# Altium integrated library Seeed-OPL-ic.IntLib: 210 symbols (part 2 of 2)
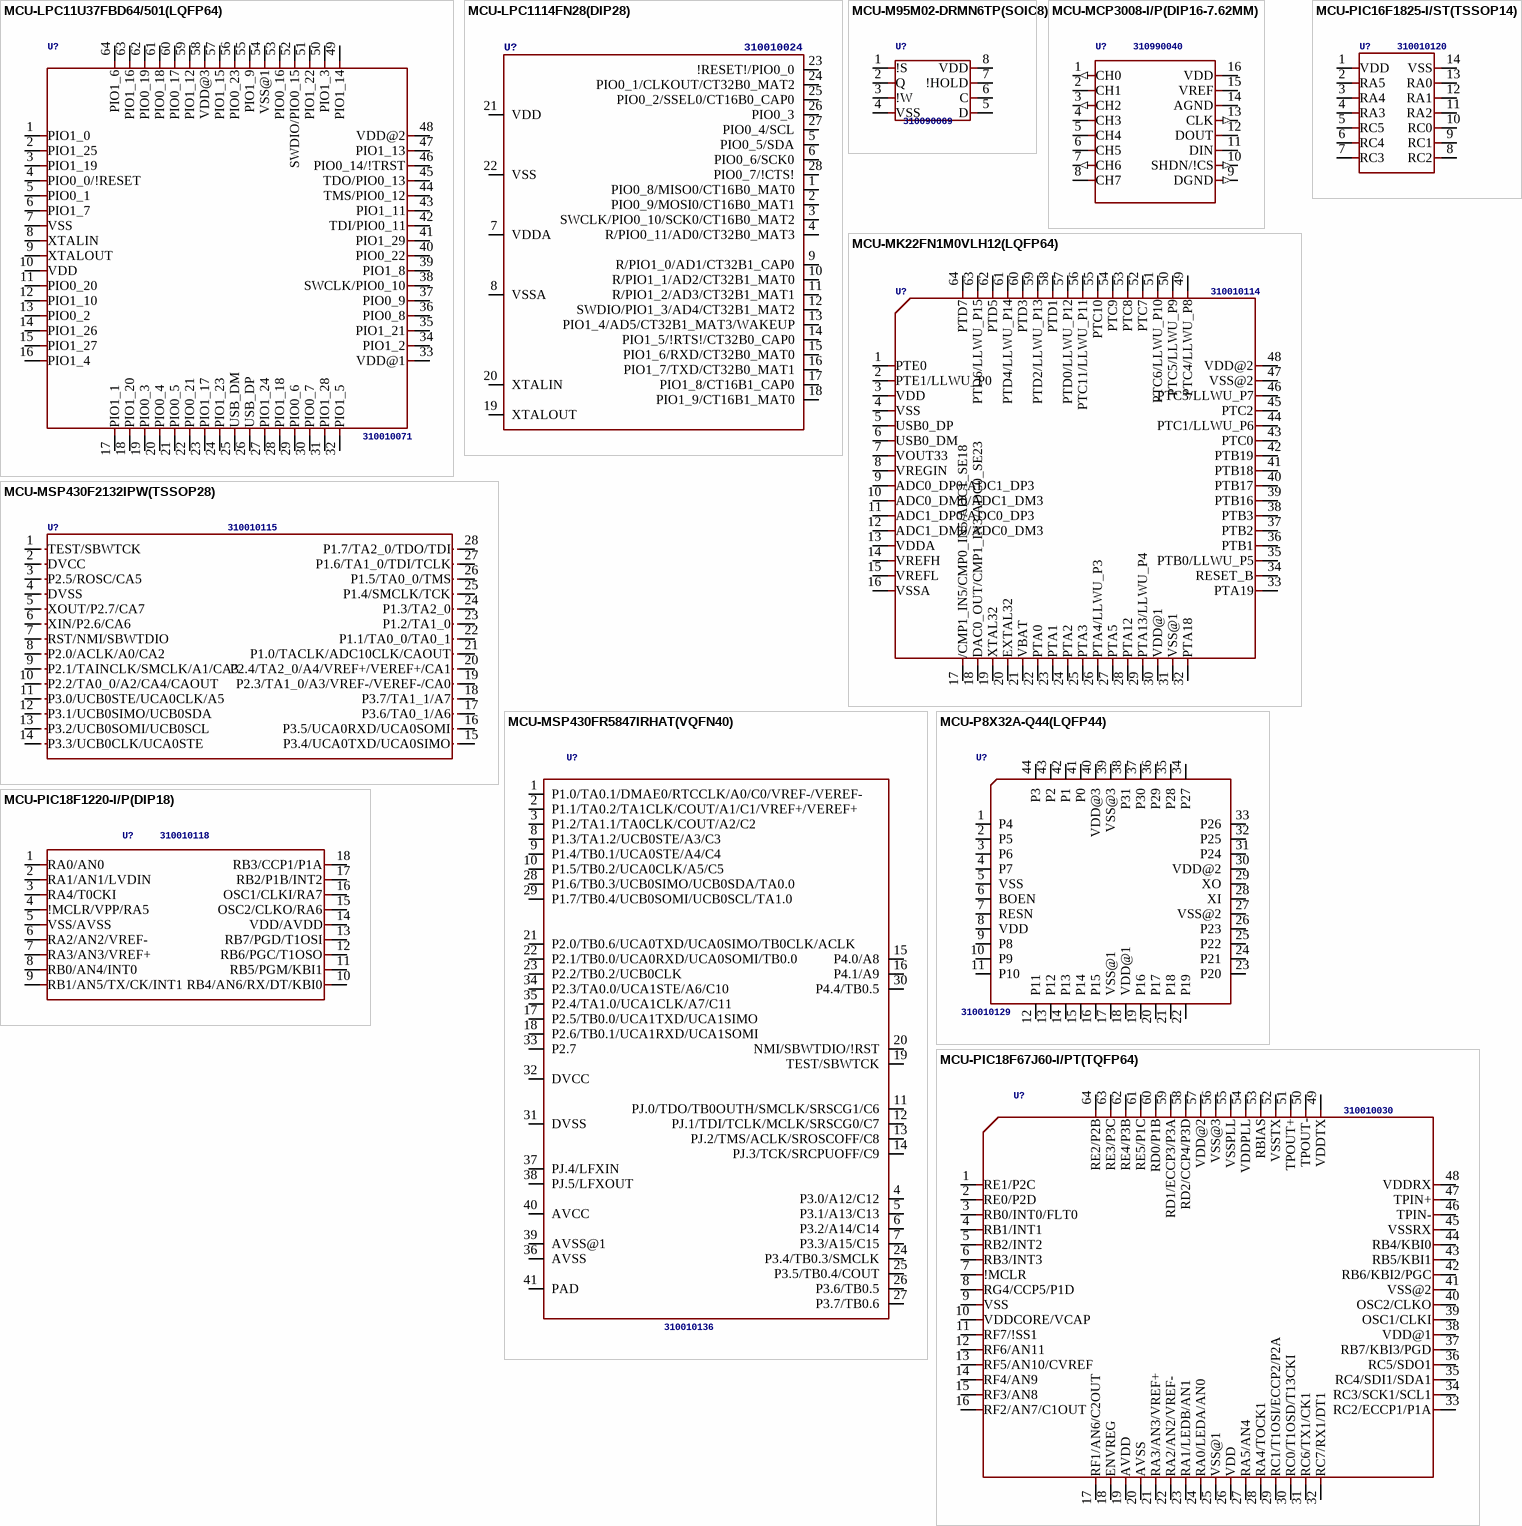
[diagram p13: symbols MCU-LPC11U37FBD64/501(LQFP64) to MCU-PIC18F1220-I/P(DIP18)]

## MCU-LPC1114FN28(DIP28)
designator U?, comment 310010024
MPN: LPC1114FN28
footprint DIP28-2.54-35.6X13.5MM
pins: 1 PIO0_8/MISO0/CT16B0_MAT0, 2 PIO0_9/MOSI0/CT16B0_MAT1, 3 SWCLK/PIO0_10/SCK0/CT16B0_MAT2, 4 R/PIO0_11/AD0/CT32B0_MAT3, 5 PIO0_5/SDA, 6 PIO0_6/SCK0, 7 VDDA (power), 8 VSSA (power), 9 R/PIO1_0/AD1/CT32B1_CAP0, 10 R/PIO1_1/AD2/CT32B1_MAT0, 11 R/PIO1_2/AD3/CT32B1_MAT1, 12 SWDIO/PIO1_3/AD4/CT32B1_MAT2, 13 PIO1_4/AD5/CT32B1_MAT3/WAKEUP, 14 PIO1_5/!RTS!/CT32B0_CAP0, 15 PIO1_6/RXD/CT32B0_MAT0, 16 PIO1_7/TXD/CT32B0_MAT1, 17 PIO1_8/CT16B1_CAP0, 18 PIO1_9/CT16B1_MAT0, 19 XTALOUT, 20 XTALIN, 21 VDD (power), 22 VSS (power), 23 !RESET!/PIO0_0, 24 PIO0_1/CLKOUT/CT32B0_MAT2, 25 PIO0_2/SSEL0/CT16B0_CAP0, 26 PIO0_3, 27 PIO0_4/SCL, 28 PIO0_7/!CTS!

## MCU-M95M02-DRMN6TP(SOIC8)
designator U?, comment 310090069
MPN: M95M02-DRMN6TP
footprint SOIC8-1.27-5X4MM
pins: 1 !S, 2 Q, 3 !W, 4 VSS, 5 D, 6 C, 7 !HOLD, 8 VDD

## MCU-MCP3008-I/P(DIP16-7.62MM)
designator U?, comment 310990040
MPN: MCP3008-I/P
footprint DIP16-2.54-19.2X7.62MM
pins: 1 CH0 (out), 2 CH1, 3 CH2 (out), 4 CH3, 5 CH4, 6 CH5, 7 CH6 (out), 8 CH7, 9 DGND (out), 10 SHDN/!CS (out), 11 DIN, 12 DOUT, 13 CLK (out), 14 AGND, 15 VREF, 16 VDD (oe)

## MCU-MK22FN1M0VLH12(LQFP64)
designator U?, comment 310010114
MPN: MK22FN1M0VLH12
footprint LQFP64-0.5-10X10MM
pins: 1 PTE0, 2 PTE1/LLWU_P0, 3 VDD, 4 VSS, 5 USB0_DP, 6 USB0_DM, 7 VOUT33, 8 VREGIN, 9 ADC0_DP0/ADC1_DP3, 10 ADC0_DM0/ADC1_DM3, 11 ADC1_DP0/ADC0_DP3, 12 ADC1_DM0/ADC0_DM3, 13 VDDA, 14 VREFH, 15 VREFL, 16 VSSA, 17 /CMP1_IN5/CMP0_IN5/ADC1_SE18, 18 DAC0_OUT/CMP1_IN3/ADC0_SE23, 19 XTAL32, 20 EXTAL32, 21 VBAT, 22 PTA0, 23 PTA1, 24 PTA2, 25 PTA3, 26 PTA4/LLWU_P3, 27 PTA5, 28 PTA12, 29 PTA13/LLWU_P4, 30 VDD@1, 31 VSS@1, 32 PTA18, 33 PTA19, 34 RESET_B, 35 PTB0/LLWU_P5, 36 PTB1, 37 PTB2, 38 PTB3, 39 PTB16, 40 PTB17, 41 PTB18, 42 PTB19, 43 PTC0, 44 PTC1/LLWU_P6, 45 PTC2, 46 PTC3/LLWU_P7, 47 VSS@2, 48 VDD@2, 49 PTC4/LLWU_P8, 50 PTC5/LLWU_P9, 51 PTC6/LLWU_P10, 52 PTC7, 53 PTC8, 54 PTC9, 55 PTC10, 56 PTC11/LLWU_P11, 57 PTD0/LLWU_P12, 58 PTD1, 59 PTD2/LLWU_P13, 60 PTD3, 61 PTD4/LLWU_P14, 62 PTD5, 63 PTD6/LLWU_P15, 64 PTD7

## MCU-MSP430F2132IPW(TSSOP28)
designator U?, comment 310010115
MPN: MSP430F2132IPW
footprint TSSOP28-0.65-9.7X4.4MM
pins: 1 TEST/SBWTCK, 2 DVCC, 3 P2.5/ROSC/CA5, 4 DVSS, 5 XOUT/P2.7/CA7, 6 XIN/P2.6/CA6, 7 RST/NMI/SBWTDIO, 8 P2.0/ACLK/A0/CA2, 9 P2.1/TAINCLK/SMCLK/A1/CA3, 10 P2.2/TA0_0/A2/CA4/CAOUT, 11 P3.0/UCB0STE/UCA0CLK/A5, 12 P3.1/UCB0SIMO/UCB0SDA, 13 P3.2/UCB0SOMI/UCB0SCL, 14 P3.3/UCB0CLK/UCA0STE, 15 P3.4/UCA0TXD/UCA0SIMO, 16 P3.5/UCA0RXD/UCA0SOMI, 17 P3.6/TA0_1/A6, 18 P3.7/TA1_1/A7, 19 P2.3/TA1_0/A3/VREF-/VEREF-/CA0, 20 P2.4/TA2_0/A4/VREF+/VEREF+/CA1, 21 P1.0/TACLK/ADC10CLK/CAOUT, 22 P1.1/TA0_0/TA0_1, 23 P1.2/TA1_0, 24 P1.3/TA2_0, 25 P1.4/SMCLK/TCK, 26 P1.5/TA0_0/TMS, 27 P1.6/TA1_0/TDI/TCLK, 28 P1.7/TA2_0/TDO/TDI

## MCU-MSP430FR5847IRHAT(VQFN40)
designator U?, comment 310010136
MPN: MSP430FR5847IRHAT
footprint QFN40G-0.5-6X6MM
pins: 1 P1.0/TA0.1/DMAE0/RTCCLK/A0/C0/VREF-/VEREF-, 2 P1.1/TA0.2/TA1CLK/COUT/A1/C1/VREF+/VEREF+, 3 P1.2/TA1.1/TA0CLK/COUT/A2/C2, 4 P3.0/A12/C12, 5 P3.1/A13/C13, 6 P3.2/A14/C14, 7 P3.3/A15/C15, 8 P1.3/TA1.2/UCB0STE/A3/C3, 9 P1.4/TB0.1/UCA0STE/A4/C4, 10 P1.5/TB0.2/UCA0CLK/A5/C5, 11 PJ.0/TDO/TB0OUTH/SMCLK/SRSCG1/C6, 12 PJ.1/TDI/TCLK/MCLK/SRSCG0/C7, 13 PJ.2/TMS/ACLK/SROSCOFF/C8, 14 PJ.3/TCK/SRCPUOFF/C9, 15 P4.0/A8, 16 P4.1/A9, 17 P2.5/TB0.0/UCA1TXD/UCA1SIMO, 18 P2.6/TB0.1/UCA1RXD/UCA1SOMI, 19 TEST/SBWTCK, 20 NMI/SBWTDIO/!RST, 21 P2.0/TB0.6/UCA0TXD/UCA0SIMO/TB0CLK/ACLK, 22 P2.1/TB0.0/UCA0RXD/UCA0SOMI/TB0.0, 23 P2.2/TB0.2/UCB0CLK, 24 P3.4/TB0.3/SMCLK, 25 P3.5/TB0.4/COUT, 26 P3.6/TB0.5, 27 P3.7/TB0.6, 28 P1.6/TB0.3/UCB0SIMO/UCB0SDA/TA0.0, 29 P1.7/TB0.4/UCB0SOMI/UCB0SCL/TA1.0, 30 P4.4/TB0.5, 31 DVSS, 32 DVCC, 33 P2.7, 34 P2.3/TA0.0/UCA1STE/A6/C10, 35 P2.4/TA1.0/UCA1CLK/A7/C11, 36 AVSS, 37 PJ.4/LFXIN, 38 PJ.5/LFXOUT, 39 AVSS@1, 40 AVCC, 41 PAD

## MCU-P8X32A-Q44(LQFP44)
designator U?, comment 310010129
MPN: P8X32A-Q44
footprint LQFP44-0.8-10X10MM
pins: 1 P4, 2 P5, 3 P6, 4 P7, 5 VSS, 6 BOEN, 7 RESN, 8 VDD, 9 P8, 10 P9, 11 P10, 12 P11, 13 P12, 14 P13, 15 P14, 16 P15, 17 VSS@1, 18 VDD@1, 19 P16, 20 P17, 21 P18, 22 P19, 23 P20, 24 P21, 25 P22, 26 P23, 27 VSS@2, 28 XI, 29 XO, 30 VDD@2, 31 P24, 32 P25, 33 P26, 34 P27, 35 P28, 36 P29, 37 P30, 38 P31, 39 VSS@3, 40 VDD@3, 41 P0, 42 P1, 43 P2, 44 P3

## MCU-PIC16F1825-I/ST(TSSOP14)
designator U?, comment 310010120
MPN: PIC16F1825-I/ST
footprint TSSOP14-0.65-5X4.4MM
pins: 1 VDD, 2 RA5, 3 RA4, 4 RA3, 5 RC5, 6 RC4, 7 RC3, 8 RC2, 9 RC1, 10 RC0, 11 RA2, 12 RA1, 13 RA0, 14 VSS

## MCU-PIC18F67J60-I/PT(TQFP64)
designator U?, comment 310010030
MPN: PIC18F67J60-I/PT
footprint TQFP64-0.5-12X12MM
pins: 1 RE1/P2C, 2 RE0/P2D, 3 RB0/INT0/FLT0, 4 RB1/INT1, 5 RB2/INT2, 6 RB3/INT3, 7 !MCLR, 8 RG4/CCP5/P1D, 9 VSS, 10 VDDCORE/VCAP, 11 RF7/!SS1, 12 RF6/AN11, 13 RF5/AN10/CVREF, 14 RF4/AN9, 15 RF3/AN8, 16 RF2/AN7/C1OUT, 17 RF1/AN6/C2OUT, 18 ENVREG, 19 AVDD, 20 AVSS, 21 RA3/AN3/VREF+, 22 RA2/AN2/VREF-, 23 RA1/LEDB/AN1, 24 RA0/LEDA/AN0, 25 VSS@1, 26 VDD, 27 RA5/AN4, 28 RA4/TOCK1, 29 RC1/T1OSI/ECCP2/P2A, 30 RC0/T1OSD/T13CKI, 31 RC6/TX1/CK1, 32 RC7/RX1/DT1, 33 RC2/ECCP1/P1A, 34 RC3/SCK1/SCL1, 35 RC4/SDI1/SDA1, 36 RC5/SDO1, 37 RB7/KBI3/PGD, 38 VDD@1, 39 OSC1/CLKI, 40 OSC2/CLKO, 41 VSS@2, 42 RB6/KBI2/PGC, 43 RB5/KBI1, 44 RB4/KBI0, 45 VSSRX, 46 TPIN-, 47 TPIN+, 48 VDDRX, 49 VDDTX, 50 TPOUT-, 51 TPOUT+, 52 VSSTX, 53 RBIAS, 54 VDDPLL, 55 VSSPLL, 56 VSS@3, 57 VDD@2, 58 RD2/CCP4/P3D, 59 RD1/ECCP3/P3A, 60 RD0/P1B, 61 RE5/P1C, 62 RE4/P3B, 63 RE3/P3C, 64 RE2/P2B

## MCU-PIC18F1220-I/P(DIP18)
designator U?, comment 310010118
MPN: PIC18F1220-I/P
footprint DIP18-2.54-22.8X7.62MM
pins: 1 RA0/AN0, 2 RA1/AN1/LVDIN, 3 RA4/T0CKI, 4 !MCLR/VPP/RA5, 5 VSS/AVSS, 6 RA2/AN2/VREF-, 7 RA3/AN3/VREF+, 8 RB0/AN4/INT0, 9 RB1/AN5/TX/CK/INT1, 10 RB4/AN6/RX/DT/KBI0, 11 RB5/PGM/KBI1, 12 RB6/PGC/T1OSO, 13 RB7/PGD/T1OSI, 14 VDD/AVDD, 15 OSC2/CLKO/RA6, 16 OSC1/CLKI/RA7, 17 RB2/P1B/INT2, 18 RB3/CCP1/P1A

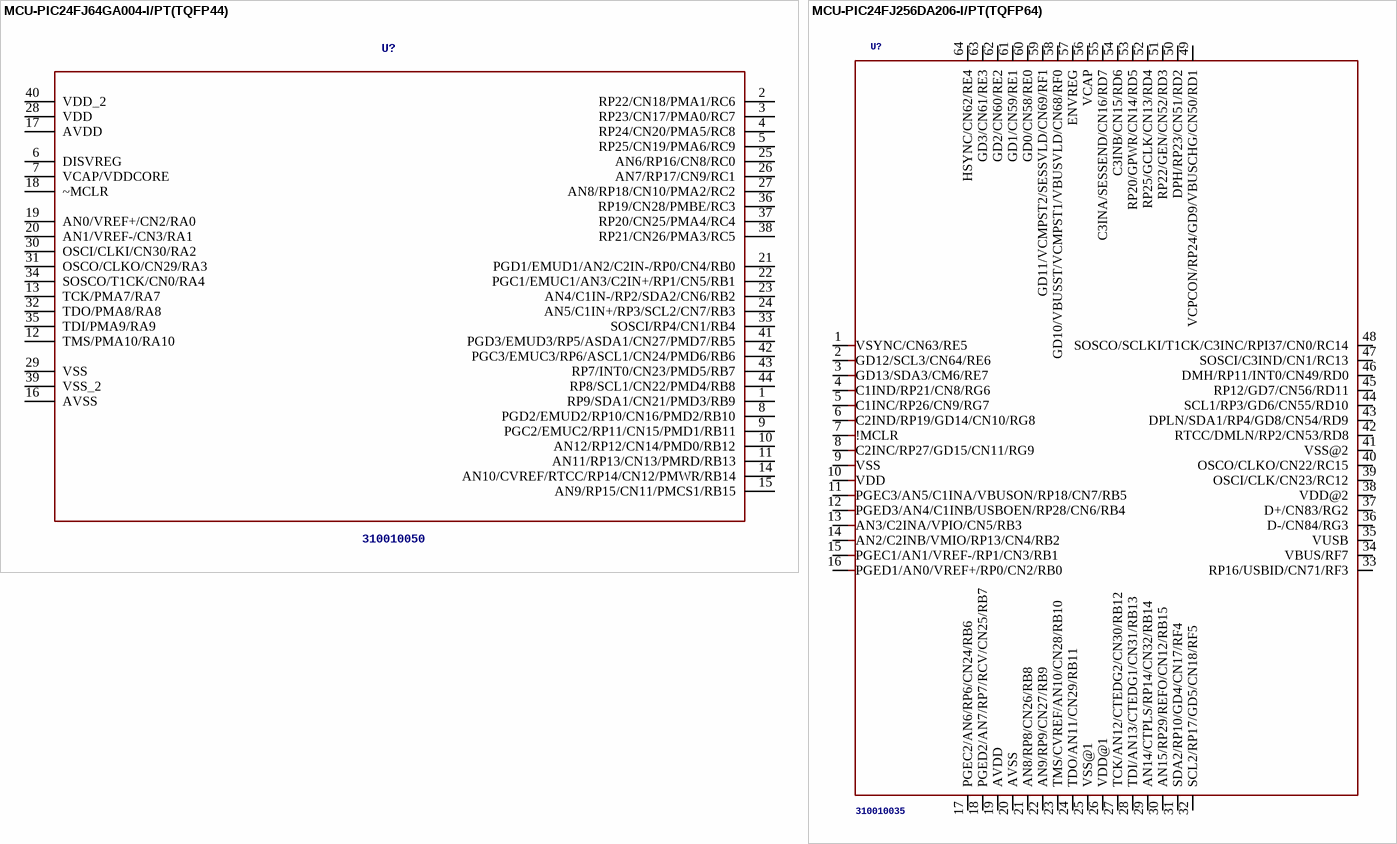
[diagram p8: symbols MCU-PIC24FJ64GA004-I/PT(TQFP44) to MCU-PIC24FJ256DA206-I/PT(TQFP64)]

## MCU-PIC24FJ64GA004-I/PT(TQFP44)
designator U?, comment 310010050
MPN: PIC24FJ64GA004-I/PT
footprint TQFP44-0.8-9.6X9.6MM
pins: 1 RP9/SDA1/CN21/PMD3/RB9, 2 RP22/CN18/PMA1/RC6, 3 RP23/CN17/PMA0/RC7, 4 RP24/CN20/PMA5/RC8, 5 RP25/CN19/PMA6/RC9, 6 DISVREG, 7 VCAP/VDDCORE (power), 8 PGD2/EMUD2/RP10/CN16/PMD2/RB10, 9 PGC2/EMUC2/RP11/CN15/PMD1/RB11, 10 AN12/RP12/CN14/PMD0/RB12, 11 AN11/RP13/CN13/PMRD/RB13, 12 TMS/PMA10/RA10, 13 TCK/PMA7/RA7, 14 AN10/CVREF/RTCC/RP14/CN12/PMWR/RB14, 15 AN9/RP15/CN11/PMCS1/RB15, 16 AVSS (power), 17 AVDD (power), 18 ~MCLR, 19 AN0/VREF+/CN2/RA0, 20 AN1/VREF-/CN3/RA1, 21 PGD1/EMUD1/AN2/C2IN-/RP0/CN4/RB0, 22 PGC1/EMUC1/AN3/C2IN+/RP1/CN5/RB1, 23 AN4/C1IN-/RP2/SDA2/CN6/RB2, 24 AN5/C1IN+/RP3/SCL2/CN7/RB3, 25 AN6/RP16/CN8/RC0, 26 AN7/RP17/CN9/RC1, 27 AN8/RP18/CN10/PMA2/RC2, 28 VDD (power), 29 VSS (power), 30 OSCI/CLKI/CN30/RA2, 31 OSCO/CLKO/CN29/RA3, 32 TDO/PMA8/RA8, 33 SOSCI/RP4/CN1/RB4, 34 SOSCO/T1CK/CN0/RA4, 35 TDI/PMA9/RA9, 36 RP19/CN28/PMBE/RC3, 37 RP20/CN25/PMA4/RC4, 38 RP21/CN26/PMA3/RC5, 39 VSS_2 (power), 40 VDD_2 (power), 41 PGD3/EMUD3/RP5/ASDA1/CN27/PMD7/RB5, 42 PGC3/EMUC3/RP6/ASCL1/CN24/PMD6/RB6, 43 RP7/INT0/CN23/PMD5/RB7, 44 RP8/SCL1/CN22/PMD4/RB8

## MCU-PIC24FJ256DA206-I/PT(TQFP64)
designator U?, comment 310010035
MPN: PIC24FJ256DA206-I/PT
footprint TQFP64-0.5-12X12MM
pins: 1 VSYNC/CN63/RE5, 2 GD12/SCL3/CN64/RE6, 3 GD13/SDA3/CM6/RE7, 4 C1IND/RP21/CN8/RG6, 5 C1INC/RP26/CN9/RG7, 6 C2IND/RP19/GD14/CN10/RG8, 7 !MCLR, 8 C2INC/RP27/GD15/CN11/RG9, 9 VSS, 10 VDD, 11 PGEC3/AN5/C1INA/VBUSON/RP18/CN7/RB5, 12 PGED3/AN4/C1INB/USBOEN/RP28/CN6/RB4, 13 AN3/C2INA/VPIO/CN5/RB3, 14 AN2/C2INB/VMIO/RP13/CN4/RB2, 15 PGEC1/AN1/VREF-/RP1/CN3/RB1, 16 PGED1/AN0/VREF+/RP0/CN2/RB0, 17 PGEC2/AN6/RP6/CN24/RB6, 18 PGED2/AN7/RP7/RCV/CN25/RB7, 19 AVDD, 20 AVSS, 21 AN8/RP8/CN26/RB8, 22 AN9/RP9/CN27/RB9, 23 TMS/CVREF/AN10/CN28/RB10, 24 TDO/AN11/CN29/RB11, 25 VSS@1, 26 VDD@1, 27 TCK/AN12/CTEDG2/CN30/RB12, 28 TDI/AN13/CTEDG1/CN31/RB13, 29 AN14/CTPLS/RP14/CN32/RB14, 30 AN15/RP29/REFO/CN12/RB15, 31 SDA2/RP10/GD4/CN17/RF4, 32 SCL2/RP17/GD5/CN18/RF5, 33 RP16/USBID/CN71/RF3, 34 VBUS/RF7, 35 VUSB, 36 D-/CN84/RG3, 37 D+/CN83/RG2, 38 VDD@2, 39 OSCI/CLK/CN23/RC12, 40 OSCO/CLKO/CN22/RC15, 41 VSS@2, 42 RTCC/DMLN/RP2/CN53/RD8, 43 DPLN/SDA1/RP4/GD8/CN54/RD9, 44 SCL1/RP3/GD6/CN55/RD10, 45 RP12/GD7/CN56/RD11, 46 DMH/RP11/INT0/CN49/RD0, 47 SOSCI/C3IND/CN1/RC13, 48 SOSCO/SCLKI/T1CK/C3INC/RPI37/CN0/RC14, 49 VCPCON/RP24/GD9/VBUSCHG/CN50/RD1, 50 DPH/RP23/CN51/RD2, 51 RP22/GEN/CN52/RD3, 52 RP25/GCLK/CN13/RD4, 53 RP20/GPWR/CN14/RD5, 54 C3INB/CN15/RD6, 55 C3INA/SESSEND/CN16/RD7, 56 VCAP, 57 ENVREG, 58 GD10/VBUSST/VCMPST1/VBUSVLD/CN68/RF0, 59 GD11/VCMPST2/SESSVLD/CN69/RF1, 60 GD0/CN58/RE0, 61 GD1/CN59/RE1, 62 GD2/CN60/RE2, 63 GD3/CN61/RE3, 64 HSYNC/CN62/RE4

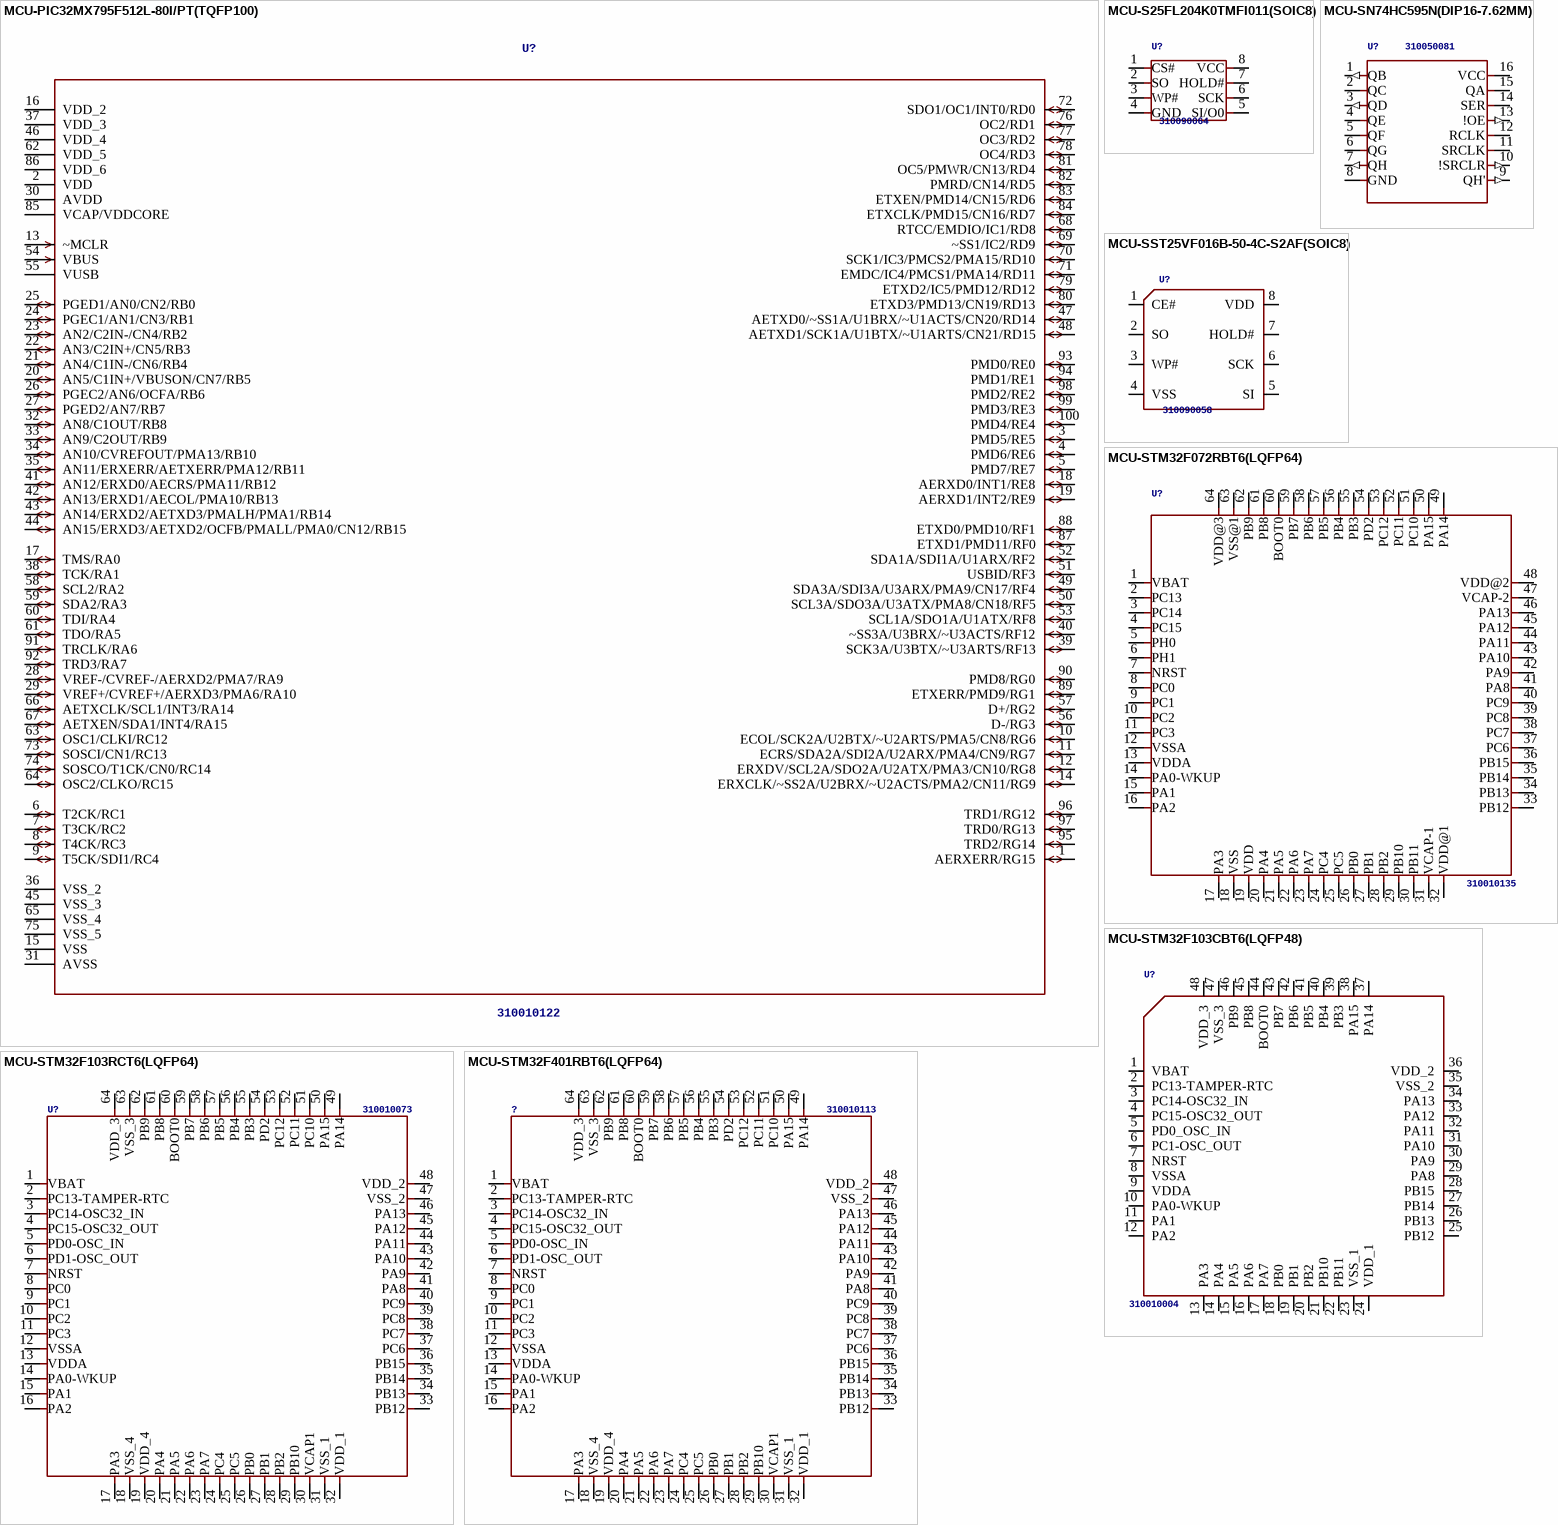
[diagram p9: symbols MCU-PIC32MX795F512L-80I/PT(TQFP100) to MCU-STM32F401RBT6(LQFP64)]

## MCU-PIC32MX795F512L-80I/PT(TQFP100)
designator U?, comment 310010122
MPN: PIC32MX795F512L-80I/PT
footprint TQFP100-0.5-14X14MM
pins: 1 AERXERR/RG15, 2 VDD (power), 3 PMD5/RE5, 4 PMD6/RE6, 5 PMD7/RE7, 6 T2CK/RC1, 7 T3CK/RC2, 8 T4CK/RC3, 9 T5CK/SDI1/RC4, 10 ECOL/SCK2A/U2BTX/~U2ARTS/PMA5/CN8/RG6, 11 ECRS/SDA2A/SDI2A/U2ARX/PMA4/CN9/RG7, 12 ERXDV/SCL2A/SDO2A/U2ATX/PMA3/CN10/RG8, 13 ~MCLR, 14 ERXCLK/~SS2A/U2BRX/~U2ACTS/PMA2/CN11/RG9, 15 VSS (power), 16 VDD_2 (power), 17 TMS/RA0, 18 AERXD0/INT1/RE8, 19 AERXD1/INT2/RE9, 20 AN5/C1IN+/VBUSON/CN7/RB5, 21 AN4/C1IN-/CN6/RB4, 22 AN3/C2IN+/CN5/RB3, 23 AN2/C2IN-/CN4/RB2, 24 PGEC1/AN1/CN3/RB1, 25 PGED1/AN0/CN2/RB0, 26 PGEC2/AN6/OCFA/RB6, 27 PGED2/AN7/RB7, 28 VREF-/CVREF-/AERXD2/PMA7/RA9, 29 VREF+/CVREF+/AERXD3/PMA6/RA10, 30 AVDD (power), 31 AVSS (power), 32 AN8/C1OUT/RB8, 33 AN9/C2OUT/RB9, 34 AN10/CVREFOUT/PMA13/RB10, 35 AN11/ERXERR/AETXERR/PMA12/RB11, 36 VSS_2 (power), 37 VDD_3 (power), 38 TCK/RA1, 39 SCK3A/U3BTX/~U3ARTS/RF13, 40 ~SS3A/U3BRX/~U3ACTS/RF12, 41 AN12/ERXD0/AECRS/PMA11/RB12, 42 AN13/ERXD1/AECOL/PMA10/RB13, 43 AN14/ERXD2/AETXD3/PMALH/PMA1/RB14, 44 AN15/ERXD3/AETXD2/OCFB/PMALL/PMA0/CN12/RB15, 45 VSS_3 (power), 46 VDD_4 (power), 47 AETXD0/~SS1A/U1BRX/~U1ACTS/CN20/RD14, 48 AETXD1/SCK1A/U1BTX/~U1ARTS/CN21/RD15, 49 SDA3A/SDI3A/U3ARX/PMA9/CN17/RF4, 50 SCL3A/SDO3A/U3ATX/PMA8/CN18/RF5, 51 USBID/RF3, 52 SDA1A/SDI1A/U1ARX/RF2, 53 SCL1A/SDO1A/U1ATX/RF8, 54 VBUS, 55 VUSB (power), 56 D-/RG3, 57 D+/RG2, 58 SCL2/RA2, 59 SDA2/RA3, 60 TDI/RA4, 61 TDO/RA5, 62 VDD_5 (power), 63 OSC1/CLKI/RC12, 64 OSC2/CLKO/RC15, 65 VSS_4 (power), 66 AETXCLK/SCL1/INT3/RA14, 67 AETXEN/SDA1/INT4/RA15, 68 RTCC/EMDIO/IC1/RD8, 69 ~SS1/IC2/RD9, 70 SCK1/IC3/PMCS2/PMA15/RD10, 71 EMDC/IC4/PMCS1/PMA14/RD11, 72 SDO1/OC1/INT0/RD0, 73 SOSCI/CN1/RC13, 74 SOSCO/T1CK/CN0/RC14, 75 VSS_5 (power), 76 OC2/RD1, 77 OC3/RD2, 78 OC4/RD3, 79 ETXD2/IC5/PMD12/RD12, 80 ETXD3/PMD13/CN19/RD13, 81 OC5/PMWR/CN13/RD4, 82 PMRD/CN14/RD5, 83 ETXEN/PMD14/CN15/RD6, 84 ETXCLK/PMD15/CN16/RD7, 85 VCAP/VDDCORE (power), 86 VDD_6 (power), 87 ETXD1/PMD11/RF0, 88 ETXD0/PMD10/RF1, 89 ETXERR/PMD9/RG1, 90 PMD8/RG0, 91 TRCLK/RA6, 92 TRD3/RA7, 93 PMD0/RE0, 94 PMD1/RE1, 95 TRD2/RG14, 96 TRD1/RG12, 97 TRD0/RG13, 98 PMD2/RE2, 99 PMD3/RE3, 100 PMD4/RE4

## MCU-S25FL204K0TMFI011(SOIC8)
designator U?, comment 310090064
MPN: S25FL204K0TMFI011
footprint SOIC8-1.27-5X4MM
pins: 1 CS#, 2 SO, 3 WP#, 4 GND, 5 SI/O0, 6 SCK, 7 HOLD#, 8 VCC

## MCU-SN74HC595N(DIP16-7.62MM)
designator U?, comment 310050081
MPN: SN74HC595N
footprint DIP16-2.54-19.2X7.62MM
pins: 1 QB (out), 2 QC, 3 QD (out), 4 QE, 5 QF, 6 QG, 7 QH (out), 8 GND, 9 QH' (out), 10 !SRCLR (out), 11 SRCLK, 12 RCLK, 13 !OE (out), 14 SER, 15 QA, 16 VCC (oe)

## MCU-SST25VF016B-50-4C-S2AF(SOIC8)
designator U?, comment 310090058
MPN: SST25VF016B-50-4C-S2AF
footprint SOIC8-1.27-5X4MM
pins: 1 CE#, 2 SO, 3 WP#, 4 VSS (oe), 5 SI, 6 SCK, 7 HOLD#, 8 VDD (power)

## MCU-STM32F072RBT6(LQFP64)
designator U?, comment 310010135
MPN: STM32F072RBT6
footprint LQFP64-0.5-10X10MM
pins: 1 VBAT, 2 PC13, 3 PC14, 4 PC15, 5 PH0, 6 PH1, 7 NRST, 8 PC0, 9 PC1, 10 PC2, 11 PC3, 12 VSSA, 13 VDDA, 14 PA0-WKUP, 15 PA1, 16 PA2, 17 PA3, 18 VSS, 19 VDD, 20 PA4, 21 PA5, 22 PA6, 23 PA7, 24 PC4, 25 PC5, 26 PB0, 27 PB1, 28 PB2, 29 PB10, 30 PB11, 31 VCAP-1, 32 VDD@1, 33 PB12, 34 PB13, 35 PB14, 36 PB15, 37 PC6, 38 PC7, 39 PC8, 40 PC9, 41 PA8, 42 PA9, 43 PA10, 44 PA11, 45 PA12, 46 PA13, 47 VCAP-2, 48 VDD@2, 49 PA14, 50 PA15, 51 PC10, 52 PC11, 53 PC12, 54 PD2, 55 PB3, 56 PB4, 57 PB5, 58 PB6, 59 PB7, 60 BOOT0, 61 PB8, 62 PB9, 63 VSS@1, 64 VDD@3

## MCU-STM32F103CBT6(LQFP48)
designator U?, comment 310010004
MPN: STM32F103CBT6
footprint LQFP48-0.5-7X7MM
pins: 1 VBAT, 2 PC13-TAMPER-RTC, 3 PC14-OSC32_IN, 4 PC15-OSC32_OUT, 5 PD0_OSC_IN, 6 PC1-OSC_OUT, 7 NRST, 8 VSSA, 9 VDDA, 10 PA0-WKUP, 11 PA1, 12 PA2, 13 PA3, 14 PA4, 15 PA5, 16 PA6, 17 PA7, 18 PB0, 19 PB1, 20 PB2, 21 PB10, 22 PB11, 23 VSS_1, 24 VDD_1, 25 PB12, 26 PB13, 27 PB14, 28 PB15, 29 PA8, 30 PA9, 31 PA10, 32 PA11, 33 PA12, 34 PA13, 35 VSS_2, 36 VDD_2, 37 PA14, 38 PA15, 39 PB3, 40 PB4, 41 PB5, 42 PB6, 43 PB7, 44 BOOT0, 45 PB8, 46 PB9, 47 VSS_3, 48 VDD_3

## MCU-STM32F103RCT6(LQFP64)
designator U?, comment 310010073
MPN: STM32F103RCT6
footprint LQFP64-0.5-10X10MM
pins: 1 VBAT, 2 PC13-TAMPER-RTC, 3 PC14-OSC32_IN, 4 PC15-OSC32_OUT, 5 PD0-OSC_IN, 6 PD1-OSC_OUT, 7 NRST, 8 PC0, 9 PC1, 10 PC2, 11 PC3, 12 VSSA, 13 VDDA, 14 PA0-WKUP, 15 PA1, 16 PA2, 17 PA3, 18 VSS_4, 19 VDD_4, 20 PA4, 21 PA5, 22 PA6, 23 PA7, 24 PC4, 25 PC5, 26 PB0, 27 PB1, 28 PB2, 29 PB10, 30 VCAP1, 31 VSS_1, 32 VDD_1, 33 PB12, 34 PB13, 35 PB14, 36 PB15, 37 PC6, 38 PC7, 39 PC8, 40 PC9, 41 PA8, 42 PA9, 43 PA10, 44 PA11, 45 PA12, 46 PA13, 47 VSS_2, 48 VDD_2, 49 PA14, 50 PA15, 51 PC10, 52 PC11, 53 PC12, 54 PD2, 55 PB3, 56 PB4, 57 PB5, 58 PB6, 59 PB7, 60 BOOT0, 61 PB8, 62 PB9, 63 VSS_3, 64 VDD_3

## MCU-STM32F401RBT6(LQFP64)
designator ?, comment 310010113
MPN: STM32F401RBT6
footprint LQFP64-0.5-10X10MM
pins: 1 VBAT, 2 PC13-TAMPER-RTC, 3 PC14-OSC32_IN, 4 PC15-OSC32_OUT, 5 PD0-OSC_IN, 6 PD1-OSC_OUT, 7 NRST, 8 PC0, 9 PC1, 10 PC2, 11 PC3, 12 VSSA, 13 VDDA, 14 PA0-WKUP, 15 PA1, 16 PA2, 17 PA3, 18 VSS_4, 19 VDD_4, 20 PA4, 21 PA5, 22 PA6, 23 PA7, 24 PC4, 25 PC5, 26 PB0, 27 PB1, 28 PB2, 29 PB10, 30 VCAP1, 31 VSS_1, 32 VDD_1, 33 PB12, 34 PB13, 35 PB14, 36 PB15, 37 PC6, 38 PC7, 39 PC8, 40 PC9, 41 PA8, 42 PA9, 43 PA10, 44 PA11, 45 PA12, 46 PA13, 47 VSS_2, 48 VDD_2, 49 PA14, 50 PA15, 51 PC10, 52 PC11, 53 PC12, 54 PD2, 55 PB3, 56 PB4, 57 PB5, 58 PB6, 59 PB7, 60 BOOT0, 61 PB8, 62 PB9, 63 VSS_3, 64 VDD_3

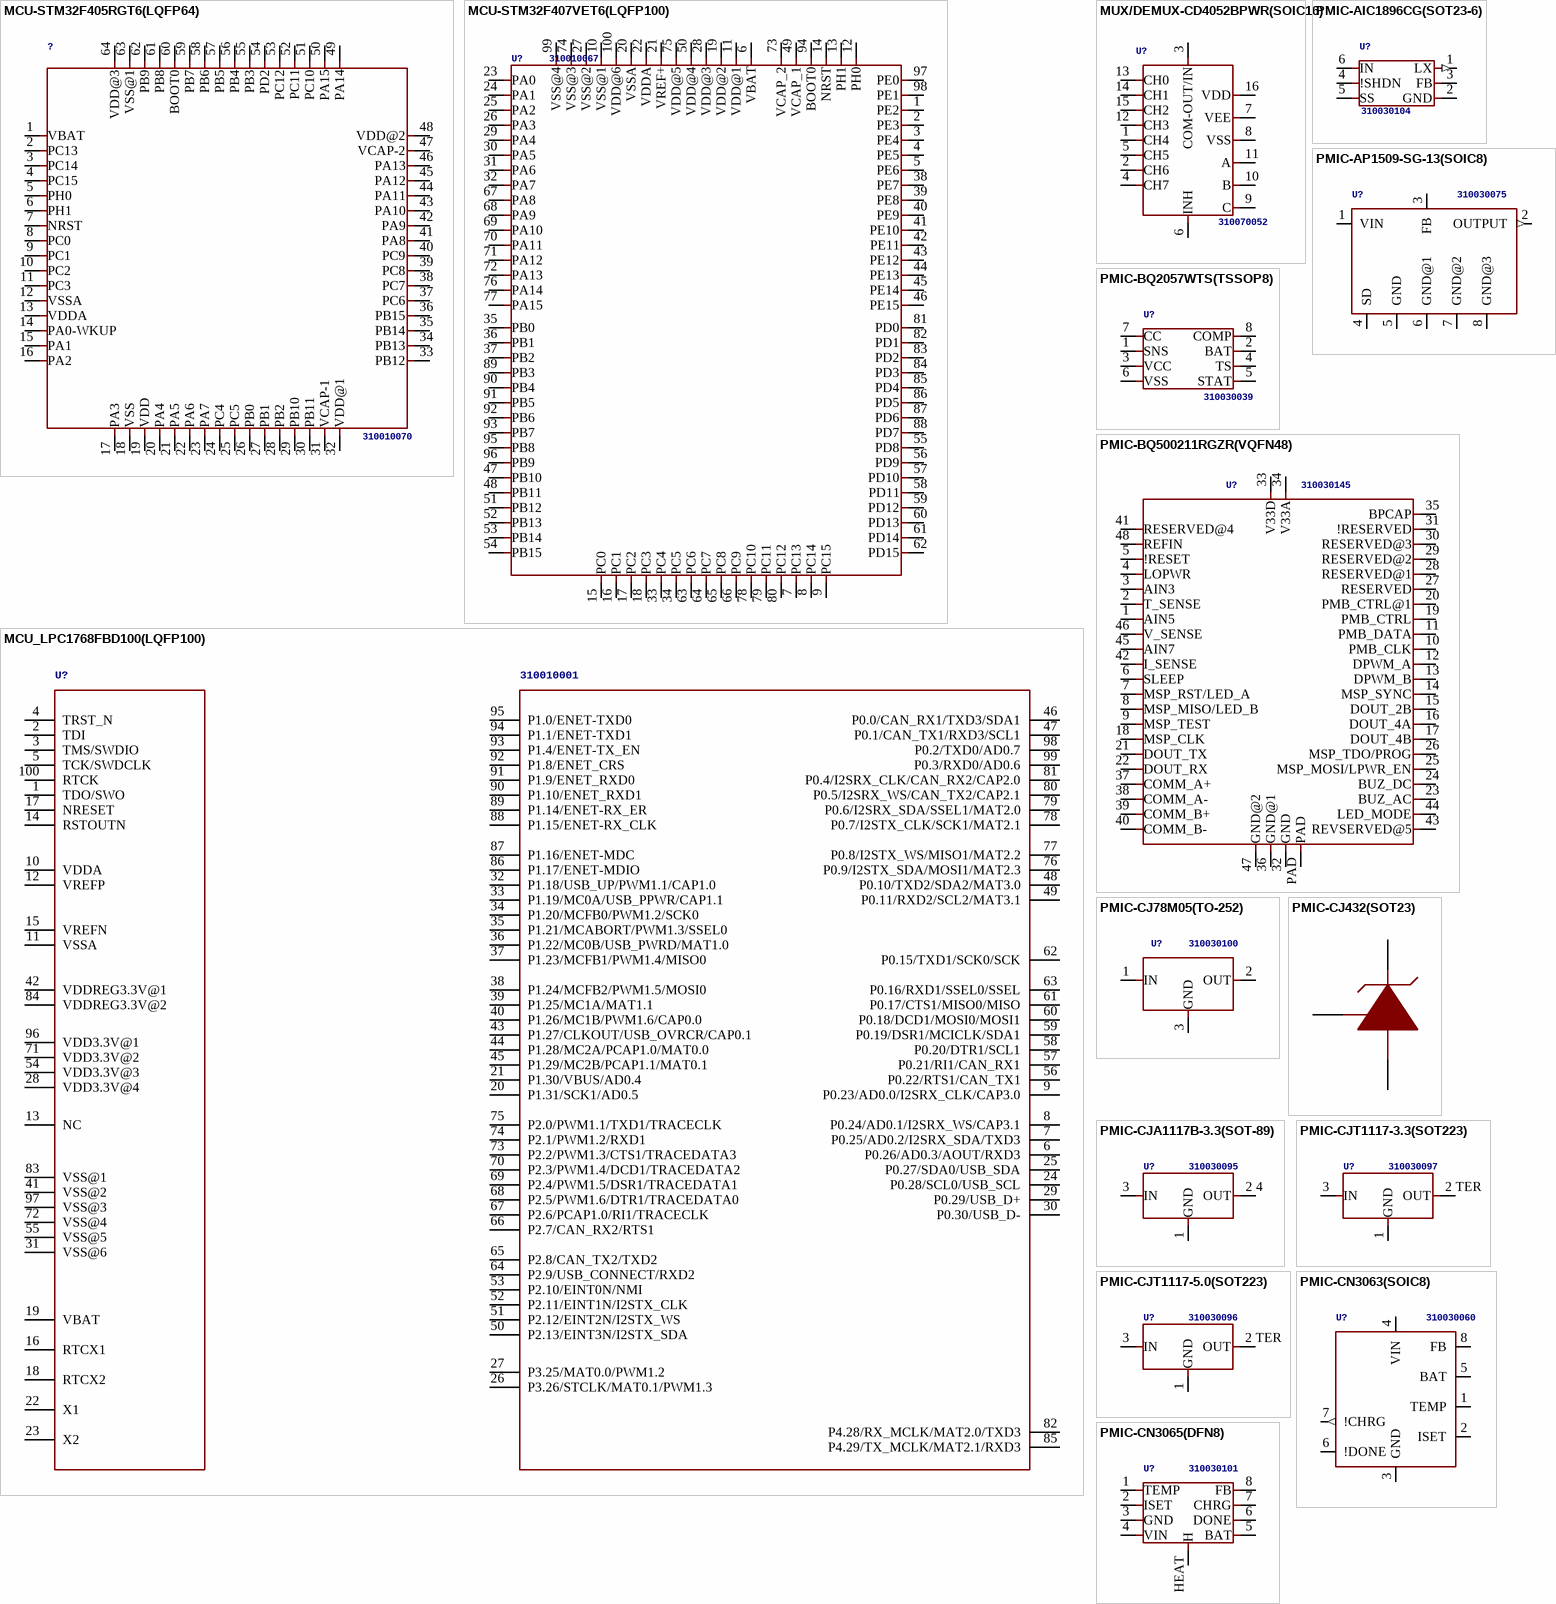
[diagram p10: symbols MCU-STM32F405RGT6(LQFP64) to PMIC-CN3065(DFN8)]

## MCU-STM32F405RGT6(LQFP64)
designator ?, comment 310010070
MPN: STM32F405RGT6
footprint LQFP64-0.5-10X10MM
pins: 1 VBAT, 2 PC13, 3 PC14, 4 PC15, 5 PH0, 6 PH1, 7 NRST, 8 PC0, 9 PC1, 10 PC2, 11 PC3, 12 VSSA, 13 VDDA, 14 PA0-WKUP, 15 PA1, 16 PA2, 17 PA3, 18 VSS, 19 VDD, 20 PA4, 21 PA5, 22 PA6, 23 PA7, 24 PC4, 25 PC5, 26 PB0, 27 PB1, 28 PB2, 29 PB10, 30 PB11, 31 VCAP-1, 32 VDD@1, 33 PB12, 34 PB13, 35 PB14, 36 PB15, 37 PC6, 38 PC7, 39 PC8, 40 PC9, 41 PA8, 42 PA9, 43 PA10, 44 PA11, 45 PA12, 46 PA13, 47 VCAP-2, 48 VDD@2, 49 PA14, 50 PA15, 51 PC10, 52 PC11, 53 PC12, 54 PD2, 55 PB3, 56 PB4, 57 PB5, 58 PB6, 59 PB7, 60 BOOT0, 61 PB8, 62 PB9, 63 VSS@1, 64 VDD@3

## MCU-STM32F407VET6(LQFP100)
designator U?, comment 310010067
MPN: STM32F407VET6
footprint LQFP100-0.5-13.8X13.8MM
pins: 1 PE2, 2 PE3, 3 PE4, 4 PE5, 5 PE6, 6 VBAT, 7 PC13, 8 PC14, 9 PC15, 10 VSS@1, 11 VDD@1, 12 PH0, 13 PH1, 14 NRST, 15 PC0, 16 PC1, 17 PC2, 18 PC3, 19 VDD@2, 20 VSSA, 21 VREF+, 22 VDDA, 23 PA0, 24 PA1, 25 PA2, 26 PA3, 27 VSS@2, 28 VDD@3, 29 PA4, 30 PA5, 31 PA6, 32 PA7, 33 PC4, 34 PC5, 35 PB0, 36 PB1, 37 PB2, 38 PE7, 39 PE8, 40 PE9, 41 PE10, 42 PE11, 43 PE12, 44 PE13, 45 PE14, 46 PE15, 47 PB10, 48 PB11, 49 VCAP_1, 50 VDD@4, 51 PB12, 52 PB13, 53 PB14, 54 PB15, 55 PD8, 56 PD9, 57 PD10, 58 PD11, 59 PD12, 60 PD13, 61 PD14, 62 PD15, 63 PC6, 64 PC7, 65 PC8, 66 PC9, 67 PA8, 68 PA9, 69 PA10, 70 PA11, 71 PA12, 72 PA13, 73 VCAP_2, 74 VSS@3, 75 VDD@5, 76 PA14, 77 PA15, 78 PC10, 79 PC11, 80 PC12, 81 PD0, 82 PD1, 83 PD2, 84 PD3, 85 PD4, 86 PD5, 87 PD6, 88 PD7, 89 PB3, 90 PB4, 91 PB5, 92 PB6, 93 PB7, 94 BOOT0, 95 PB8, 96 PB9, 97 PE0, 98 PE1, 99 VSS@4, 100 VDD@6

## MCU_LPC1768FBD100(LQFP100)
designator U?, comment 310010001
MPN: LPC1768FBD100
footprint LQFP100-0.5-13.8X13.8MM
pins: 1 TDO/SWO, 2 TDI, 3 TMS/SWDIO, 4 TRST_N, 5 TCK/SWDCLK, 6 P0.26/AD0.3/AOUT/RXD3, 7 P0.25/AD0.2/I2SRX_SDA/TXD3, 8 P0.24/AD0.1/I2SRX_WS/CAP3.1, 9 P0.23/AD0.0/I2SRX_CLK/CAP3.0, 10 VDDA, 11 VSSA, 12 VREFP, 13 NC, 14 RSTOUTN, 15 VREFN, 16 RTCX1, 17 NRESET, 18 RTCX2, 19 VBAT, 20 P1.31/SCK1/AD0.5, 21 P1.30/VBUS/AD0.4, 22 X1, 23 X2, 24 P0.28/SCL0/USB_SCL, 25 P0.27/SDA0/USB_SDA, 26 P3.26/STCLK/MAT0.1/PWM1.3, 27 P3.25/MAT0.0/PWM1.2, 28 VDD3.3V@4, 29 P0.29/USB_D+, 30 P0.30/USB_D-, 31 VSS@6, 32 P1.18/USB_UP/PWM1.1/CAP1.0, 33 P1.19/MC0A/USB_PPWR/CAP1.1, 34 P1.20/MCFB0/PWM1.2/SCK0, 35 P1.21/MCABORT/PWM1.3/SSEL0, 36 P1.22/MC0B/USB_PWRD/MAT1.0, 37 P1.23/MCFB1/PWM1.4/MISO0, 38 P1.24/MCFB2/PWM1.5/MOSI0, 39 P1.25/MC1A/MAT1.1, 40 P1.26/MC1B/PWM1.6/CAP0.0, 41 VSS@2, 42 VDDREG3.3V@1, 43 P1.27/CLKOUT/USB_OVRCR/CAP0.1, 44 P1.28/MC2A/PCAP1.0/MAT0.0, 45 P1.29/MC2B/PCAP1.1/MAT0.1, 46 P0.0/CAN_RX1/TXD3/SDA1, 47 P0.1/CAN_TX1/RXD3/SCL1, 48 P0.10/TXD2/SDA2/MAT3.0, 49 P0.11/RXD2/SCL2/MAT3.1, 50 P2.13/EINT3N/I2STX_SDA, 51 P2.12/EINT2N/I2STX_WS, 52 P2.11/EINT1N/I2STX_CLK, 53 P2.10/EINT0N/NMI, 54 VDD3.3V@3, 55 VSS@5, 56 P0.22/RTS1/CAN_TX1, 57 P0.21/RI1/CAN_RX1, 58 P0.20/DTR1/SCL1, 59 P0.19/DSR1/MCICLK/SDA1, 60 P0.18/DCD1/MOSI0/MOSI1, 61 P0.17/CTS1/MISO0/MISO, 62 P0.15/TXD1/SCK0/SCK, 63 P0.16/RXD1/SSEL0/SSEL, 64 P2.9/USB_CONNECT/RXD2, 65 P2.8/CAN_TX2/TXD2, 66 P2.7/CAN_RX2/RTS1, 67 P2.6/PCAP1.0/RI1/TRACECLK, 68 P2.5/PWM1.6/DTR1/TRACEDATA0, 69 P2.4/PWM1.5/DSR1/TRACEDATA1, 70 P2.3/PWM1.4/DCD1/TRACEDATA2, 71 VDD3.3V@2, 72 VSS@4, 73 P2.2/PWM1.3/CTS1/TRACEDATA3, 74 P2.1/PWM1.2/RXD1, 75 P2.0/PWM1.1/TXD1/TRACECLK, 76 P0.9/I2STX_SDA/MOSI1/MAT2.3, 77 P0.8/I2STX_WS/MISO1/MAT2.2, 78 P0.7/I2STX_CLK/SCK1/MAT2.1, 79 P0.6/I2SRX_SDA/SSEL1/MAT2.0, 80 P0.5/I2SRX_WS/CAN_TX2/CAP2.1, 81 P0.4/I2SRX_CLK/CAN_RX2/CAP2.0, 82 P4.28/RX_MCLK/MAT2.0/TXD3, 83 VSS@1, 84 VDDREG3.3V@2, 85 P4.29/TX_MCLK/MAT2.1/RXD3, 86 P1.17/ENET-MDIO, 87 P1.16/ENET-MDC, 88 P1.15/ENET-RX_CLK, 89 P1.14/ENET-RX_ER, 90 P1.10/ENET_RXD1, 91 P1.9/ENET_RXD0, 92 P1.8/ENET_CRS, 93 P1.4/ENET-TX_EN, 94 P1.1/ENET-TXD1, 95 P1.0/ENET-TXD0, 96 VDD3.3V@1, 97 VSS@3, 98 P0.2/TXD0/AD0.7, 99 P0.3/RXD0/AD0.6, 100 RTCK

## MUX/DEMUX-CD4052BPWR(SOIC16)
designator U?, comment 310070052
MPN: CD4052BPWR
footprint SOIC16-1.27-10X3.9MM
pins: 1 CH4, 2 CH6, 3 COM-OUT/IN, 4 CH7, 5 CH5, 6 INH, 7 VEE, 8 VSS (oe), 9 C, 10 B, 11 A, 12 CH3, 13 CH0, 14 CH1, 15 CH2, 16 VDD (power)

## PMIC-AIC1896CG(SOT23-6)
designator U?, comment 310030104
MPN: AIC1896CG
footprint SOT-23-6
pins: 1 LX (out), 2 GND (power), 3 FB, 4 !SHDN, 5 SS, 6 IN

## PMIC-AP1509-SG-13(SOIC8)
designator U?, comment 310030075
MPN: AP1509-SG-13
footprint SOIC8-1.27-5X4MM
pins: 1 VIN, 2 OUTPUT (out), 3 FB, 4 SD, 5 GND (power), 6 GND@1 (power), 7 GND@2 (power), 8 GND@3 (power)

## PMIC-BQ2057WTS(TSSOP8)
designator U?, comment 310030039
MPN: BQ2057WTS
footprint TSSOP8-0.65-3X4.4MM
pins: 1 SNS, 2 BAT, 3 VCC (power), 4 TS, 5 STAT, 6 VSS (oe), 7 CC, 8 COMP

## PMIC-BQ500211RGZR(VQFN48)
designator U?, comment 310030145
MPN: BQ500211RGZR
footprint VQFN48G-0.5-7X7MM
pins: 1 AIN5, 2 T_SENSE, 3 AIN3, 4 LOPWR, 5 !RESET, 6 SLEEP, 7 MSP_RST/LED_A, 8 MSP_MISO/LED_B, 9 MSP_TEST, 10 PMB_CLK, 11 PMB_DATA, 12 DPWM_A, 13 DPWM_B, 14 MSP_SYNC, 15 DOUT_2B, 16 DOUT_4A, 17 DOUT_4B, 18 MSP_CLK, 19 PMB_CTRL, 20 PMB_CTRL@1, 21 DOUT_TX, 22 DOUT_RX, 23 BUZ_AC, 24 BUZ_DC, 25 MSP_MOSI/LPWR_EN, 26 MSP_TDO/PROG, 27 RESERVED, 28 RESERVED@1, 29 RESERVED@2, 30 RESERVED@3, 31 !RESERVED, 32 GND, 33 V33D, 34 V33A, 35 BPCAP, 36 GND@1, 37 COMM_A+, 38 COMM_A-, 39 COMM_B+, 40 COMM_B-, 41 RESERVED@4, 42 I_SENSE, 43 REVSERVED@5, 44 LED_MODE, 45 AIN7, 46 V_SENSE, 47 GND@2, 48 REFIN, PAD

## PMIC-CJ78M05(TO-252)
designator U?, comment 310030100
MPN: CJ78M05
footprint TO-252
pins: 1 IN, 2 OUT, 3 GND

## PMIC-CJ432(SOT23)
designator U?, comment 310030079  (value not drawn)
MPN: CJ432
footprint SOT-23
pins: 1 REFERENCE, 2 CATHODE, 3 ANODE

## PMIC-CJA1117B-3.3(SOT-89)
designator U?, comment 310030095
MPN: CJA1117B-3.3
footprint SOT-89
pins: 1 GND, 2 4 OUT, 3 IN

## PMIC-CJT1117-3.3(SOT223)
designator U?, comment 310030097
MPN: CJT1117-3.3
footprint SOT-223
pins: 1 GND, 2 TER OUT, 3 IN

## PMIC-CJT1117-5.0(SOT223)
designator U?, comment 310030096
MPN: CJT1117-5.0
footprint SOT-223
pins: 1 GND, 2 TER OUT, 3 IN

## PMIC-CN3063(SOIC8)
designator U?, comment 310030060
MPN: CN3063
footprint SOIC8-1.27-5X4MM
pins: 1 TEMP, 2 ISET, 3 GND (oe), 4 VIN, 5 BAT (power), 6 !DONE, 7 !CHRG (out), 8 FB

## PMIC-CN3065(DFN8)
designator U?, comment 310030101
MPN: CN3065
footprint DFN8G-0.5-3X3MM
pins: 1 TEMP, 2 ISET, 3 GND (oe), 4 VIN, 5 BAT, 6 DONE, 7 CHRG, 8 FB, HEAT H

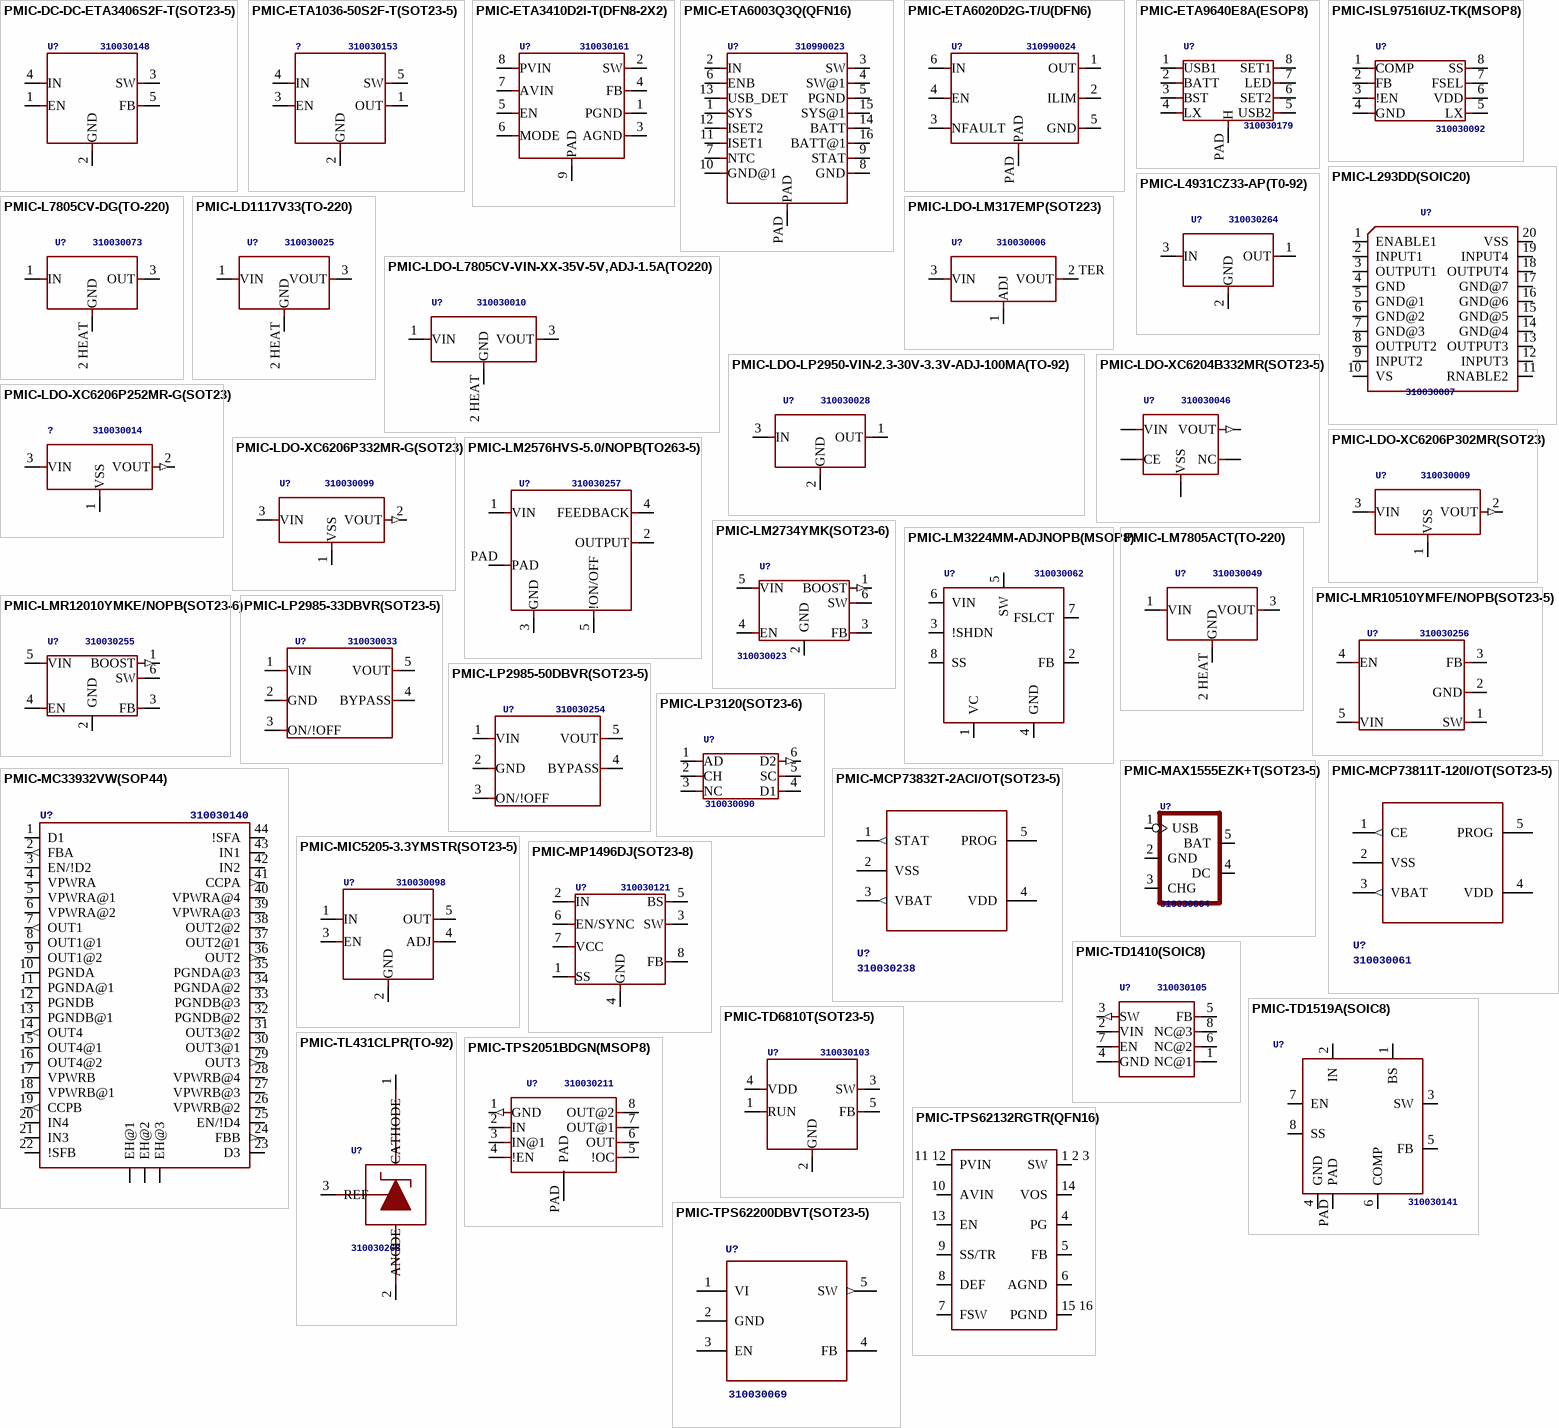
[diagram p11: symbols PMIC-DC-DC-ETA3406S2F-T(SOT23-5) to PMIC-TPS62200DBVT(SOT23-5)]

## PMIC-DC-DC-ETA3406S2F-T(SOT23-5)
designator U?, comment 310030148
MPN: ETA3406S2F-T
footprint SOT-23-5
pins: 1 EN, 2 GND, 3 SW, 4 IN, 5 FB

## PMIC-ETA1036-50S2F-T(SOT23-5)
designator ?, comment 310030153
MPN: ETA1036-50S2F-T
footprint SOT-23-5
pins: 1 OUT, 2 GND, 3 EN, 4 IN, 5 SW

## PMIC-ETA3410D2I-T(DFN8-2X2)
designator U?, comment 310030161
MPN: ETA3410D2I-T
footprint DFN8G-0.5-2X2MM
pins: 1 PGND, 2 SW, 3 AGND, 4 FB, 5 EN, 6 MODE, 7 AVIN, 8 PVIN, 9 PAD

## PMIC-ETA6003Q3Q(QFN16)
designator U?, comment 310990023
MPN: ETA6003Q3Q
footprint QFN16G-0.5-3X3MM
pins: 1 SYS, 2 IN, 3 SW, 4 SW@1, 5 PGND, 6 ENB, 7 NTC, 8 GND, 9 STAT, 10 GND@1, 11 ISET1, 12 ISET2, 13 USB_DET, 14 BATT, 15 SYS@1, 16 BATT@1, PAD

## PMIC-ETA6020D2G-T/U(DFN6)
designator U?, comment 310990024
MPN: ETA6020D2G-T/U
footprint DFN6G-0.65-2X2MM
pins: 1 OUT, 2 ILIM, 3 NFAULT, 4 EN, 5 GND, 6 IN, PAD

## PMIC-ETA9640E8A(ESOP8)
designator U?, comment 310030179
MPN: ETA9640E8A
footprint SOIC8G-1.27-5X4MM
pins: 1 USB1, 2 BATT, 3 BST, 4 LX, 5 USB2, 6 SET2, 7 LED, 8 SET1, PAD H

## PMIC-ISL97516IUZ-TK(MSOP8)
designator U?, comment 310030092
MPN: ISL97516IUZ-TK
footprint MSOP8-0.65-3X3MM
pins: 1 COMP, 2 FB, 3 !EN, 4 GND (oe), 5 LX, 6 VDD (power), 7 FSEL, 8 SS

## PMIC-L293DD(SOIC20)
designator U?, comment 310030087
MPN: L293DD
footprint SOIC20-1.27-12.5X7.5MM
pins: 1 ENABLE1, 2 INPUT1, 3 OUTPUT1, 4 GND, 5 GND@1, 6 GND@2, 7 GND@3, 8 OUTPUT2, 9 INPUT2, 10 VS, 11 RNABLE2, 12 INPUT3, 13 OUTPUT3, 14 GND@4, 15 GND@5, 16 GND@6, 17 GND@7, 18 OUTPUT4, 19 INPUT4, 20 VSS

## PMIC-L4931CZ33-AP(T0-92)
designator U?, comment 310030264
MPN: L4931CZ33-AP
footprint TO-92
pins: 1 OUT, 2 GND, 3 IN

## PMIC-L7805CV-DG(TO-220)
designator U?, comment 310030073
MPN: L7805CV-DG
footprint TO-220
pins: 1 IN, 2 HEAT GND, 3 OUT

## PMIC-LD1117V33(TO-220)
designator U?, comment 310030025
MPN: LD1117V33
footprint TO-220
pins: 1 VIN, 2 HEAT GND, 3 VOUT

## PMIC-LDO-L7805CV-VIN-XX-35V-5V,ADJ-1.5A(TO220)
designator U?, comment 310030010
MPN: L7805CV
footprint TO-220
pins: 1 VIN, 2 HEAT GND (oe), 3 VOUT

## PMIC-LDO-LM317EMP(SOT223)
designator U?, comment 310030006
MPN: LM317EMP
footprint SOT-223
pins: 1 ADJ, 2 TER VOUT, 3 VIN

## PMIC-LDO-LP2950-VIN-2.3-30V-3.3V-ADJ-100MA(TO-92)
designator U?, comment 310030028
MPN: LP2950ACZ-3.3
footprint TO-92
pins: 1 OUT, 2 GND (oe), 3 IN

## PMIC-LDO-XC6204B332MR(SOT23-5)
designator U?, comment 310030046
MPN: XC6204B332MR
footprint SOT-23-5
pins: ?1 VIN, ?2 CE, ?3 VSS (oe), ?4 VOUT (out), ?5 NC

## PMIC-LDO-XC6206P252MR-G(SOT23)
designator ?, comment 310030014
MPN: XC6206P252MR-G
footprint SOT-23
pins: 1 VSS (oe), 2 VOUT (out), 3 VIN

## PMIC-LDO-XC6206P302MR(SOT23)
designator U?, comment 310030009
MPN: XC6206P302MR
footprint SOT-23
pins: 1 VSS (oe), 2 VOUT (out), 3 VIN

## PMIC-LDO-XC6206P332MR-G(SOT23)
designator U?, comment 310030099
MPN: XC6206P332MR-G
footprint SOT-23
pins: 1 VSS (oe), 2 VOUT (out), 3 VIN

## PMIC-LM2576HVS-5.0/NOPB(TO263-5)
designator U?, comment 310030257
MPN: LM2576HVS-5.0/NOPB
footprint TO-263-5
pins: 1 VIN, 2 OUTPUT, 3 GND, 4 FEEDBACK, 5 !ON/OFF, PAD

## PMIC-LM2734YMK(SOT23-6)
designator U?, comment 310030023
MPN: LM2734YMK
footprint SOT-23-6
pins: 1 BOOST (out), 2 GND (power), 3 FB, 4 EN, 5 VIN, 6 SW

## PMIC-LM3224MM-ADJNOPB(MSOP8)
designator U?, comment 310030062
MPN: LM3224MM-ADJNOPB
footprint MSOP8-0.65-3X3MM
pins: 1 VC, 2 FB, 3 !SHDN, 4 GND (oe), 5 SW, 6 VIN, 7 FSLCT, 8 SS

## PMIC-LM7805ACT(TO-220)
designator U?, comment 310030049
MPN: LM7805ACT
footprint TO-220
pins: 1 VIN, 2 HEAT GND, 3 VOUT

## PMIC-LMR10510YMFE/NOPB(SOT23-5)
designator U?, comment 310030256
MPN: LMR10510YMFE/NOPB
footprint SOT-23-5
pins: 1 SW, 2 GND, 3 FB, 4 EN, 5 VIN

## PMIC-LMR12010YMKE/NOPB(SOT23-6)
designator U?, comment 310030255
MPN: LMR12010YMKE/NOPB
footprint SOT-23-6
pins: 1 BOOST (out), 2 GND (power), 3 FB, 4 EN, 5 VIN, 6 SW

## PMIC-LP2985-33DBVR(SOT23-5)
designator U?, comment 310030033
MPN: LP2985-33DBVR
footprint SOT-23-5
pins: 1 VIN, 2 GND, 3 ON/!OFF, 4 BYPASS, 5 VOUT

## PMIC-LP2985-50DBVR(SOT23-5)
designator U?, comment 310030254
MPN: LP2985-50DBVR
footprint SOT-23-5
pins: 1 VIN, 2 GND, 3 ON/!OFF, 4 BYPASS, 5 VOUT

## PMIC-LP3120(SOT23-6)
designator U?, comment 310030090
MPN: LP3120
footprint SOT-23-6
pins: 1 AD, 2 CH, 3 NC, 4 D1, 5 SC, 6 D2 (out)

## PMIC-MAX1555EZK+T(SOT23-5)
designator U?, comment 310030064
MPN: MAX1555EZK+T
footprint SOT-23-5
pins: 1 USB, 2 GND, 3 CHG, 4 DC, 5 BAT

## PMIC-MC33932VW(SOP44)
designator U?, comment 310030140
MPN: MC33932VW
footprint SOP44-0.65-15.8X10.9MM
pins: 1 D1, 2 FBA (out), 3 EN/!D2, 4 VPWRA, 5 VPWRA@1, 6 VPWRA@2, 7 OUT1 (out), 8 OUT1@1, 9 OUT1@2, 10 PGNDA (power), 11 PGNDA@1 (power), 12 PGNDB (power), 13 PGNDB@1 (power), 14 OUT4 (out), 15 OUT4@1, 16 OUT4@2, 17 VPWRB, 18 VPWRB@1, 19 CCPB (out), 20 IN4, 21 IN3, 22 !SFB (oc), 23 D3, 24 FBB (out), 25 EN/!D4, 26 VPWRB@2, 27 VPWRB@3, 28 VPWRB@4, 29 OUT3 (out), 30 OUT3@1, 31 OUT3@2, 32 PGNDB@2 (power), 33 PGNDB@3 (power), 34 PGNDA@2 (power), 35 PGNDA@3 (power), 36 OUT2 (out), 37 OUT2@1, 38 OUT2@2, 39 VPWRA@3, 40 VPWRA@4, 41 CCPA (out), 42 IN2, 43 IN1, 44 !SFA (oc), EH@1, EH@2, EH@3

## PMIC-MCP73811T-120I/OT(SOT23-5)
designator U?, comment 310030061
MPN: MCP73811T-420I/OT
footprint SOT-23-5
pins: 1 CE (out), 2 VSS, 3 VBAT (out), 4 VDD, 5 PROG

## PMIC-MCP73832T-2ACI/OT(SOT23-5)
designator U?, comment 310030238
MPN: MCP73832T-2ACI/OT
footprint SOT-23-5
pins: 1 STAT (out), 2 VSS, 3 VBAT (out), 4 VDD, 5 PROG

## PMIC-MIC5205-3.3YMSTR(SOT23-5)
designator U?, comment 310030098
MPN: MIC5205-3.3YM5TR
footprint SOT-23-5
pins: 1 IN, 2 GND, 3 EN, 4 ADJ, 5 OUT

## PMIC-MP1496DJ(SOT23-8)
designator U?, comment 310030121
MPN: MP1496DJ
footprint SOT-23-8
pins: 1 SS, 2 IN, 3 SW, 4 GND, 5 BS, 6 EN/SYNC, 7 VCC, 8 FB

## PMIC-TD1410(SOIC8)
designator U?, comment 310030105
MPN: TD1410
footprint SOIC8-1.27-5X4MM
pins: 1 NC@1, 2 VIN, 3 SW (out), 4 GND (oe), 5 FB, 6 NC@2, 7 EN, 8 NC@3

## PMIC-TD1519A(SOIC8)
designator U?, comment 310030141
MPN: TD1519A
footprint SOIC8G-1.27-5X4MM
pins: 1 BS, 2 IN, 3 SW, 4 GND (oe), 5 FB, 6 COMP, 7 EN, 8 SS, PAD (oe)

## PMIC-TD6810T(SOT23-5)
designator U?, comment 310030103
MPN: TD6810T
footprint SOT-23-5
pins: 1 RUN, 2 GND, 3 SW, 4 VDD, 5 FB

## PMIC-TL431CLPR(TO-92)
designator U?, comment 310030268
MPN: TL431CLPR
footprint TO-92
pins: 1 CATHODE, 2 ANODE, 3 REF

## PMIC-TPS2051BDGN(MSOP8)
designator U?, comment 310030211
MPN: TPS2051BDGN
footprint MSOP8G-0.65-3X3MM
pins: 1 GND (out), 2 IN, 3 IN@1, 4 !EN (oe), 5 !OC, 6 OUT, 7 OUT@1, 8 OUT@2, PAD

## PMIC-TPS62132RGTR(QFN16)
designator U?, comment 310030129  (value not drawn)
MPN: TPS62132RGTR
footprint QFN16G-0.5-3X3MM
pins: 1 2 3 SW, 4 PG, 5 FB, 6 AGND, 7 FSW, 8 DEF, 9 SS/TR, 10 AVIN, 11 12 PVIN, 13 EN, 14 VOS, 15 16 PGND

## PMIC-TPS62200DBVT(SOT23-5)
designator U?, comment 310030069
MPN: TPS62200DBVT
footprint SOT-23-5
pins: 1 VI, 2 GND (oe), 3 EN, 4 FB, 5 SW (out)

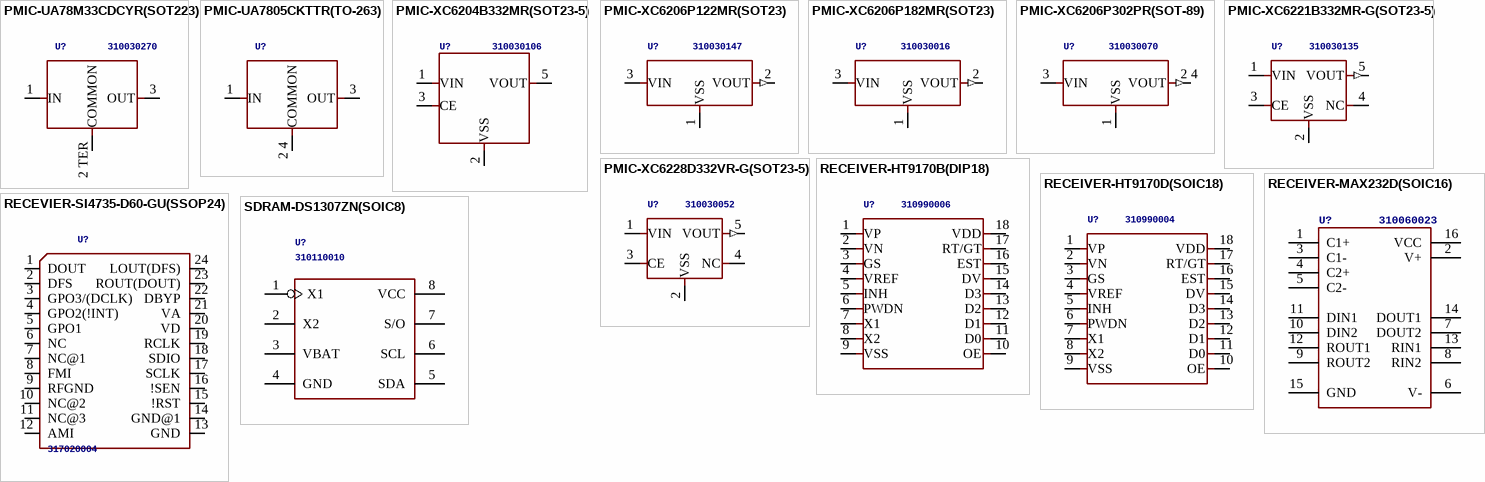
[diagram p12: symbols PMIC-UA78M33CDCYR(SOT223) to SDRAM-DS1307ZN(SOIC8)]

## PMIC-UA78M33CDCYR(SOT223)
designator U?, comment 310030270
MPN: UA78M33CDCYR
footprint SOT-223
pins: 1 IN, 2 TER COMMON, 3 OUT

## PMIC-UA7805CKTTR(TO-263)
designator U?
MPN: UA7805CKTTR
footprint TO-263
pins: 1 IN, 2 4 COMMON, 3 OUT

## PMIC-XC6204B332MR(SOT23-5)
designator U?, comment 310030106
MPN: XC6204B332MR
footprint SOT-23-5
pins: 1 VIN, 2 VSS, 3 CE, 5 VOUT

## PMIC-XC6206P122MR(SOT23)
designator U?, comment 310030147
MPN: XC6206P122MR
footprint SOT-23
pins: 1 VSS (oe), 2 VOUT (out), 3 VIN

## PMIC-XC6206P182MR(SOT23)
designator U?, comment 310030016
MPN: XC6206P182MR
footprint SOT-23
pins: 1 VSS (oe), 2 VOUT (out), 3 VIN

## PMIC-XC6206P302PR(SOT-89)
designator U?, comment 310030070
MPN: XC6206P302PR
footprint SOT-89
pins: 1 VSS (oe), 2 4 VOUT (out), 3 VIN

## PMIC-XC6221B332MR-G(SOT23-5)
designator U?, comment 310030135
MPN: XC6221B332MR-G
footprint SOT-23-5
pins: 1 VIN, 2 VSS (oe), 3 CE, 4 NC, 5 VOUT (out)

## PMIC-XC6228D332VR-G(SOT23-5)
designator U?, comment 310030052
MPN: XC6228D332VR-G
footprint SOT-23-5
pins: 1 VIN, 2 VSS (oe), 3 CE, 4 NC, 5 VOUT (out)

## RECEIVER-HT9170B(DIP18)
designator U?, comment 310990006
MPN: HT9170B
footprint DIP18-2.54-22.8X7.62MM
pins: 1 VP, 2 VN, 3 GS, 4 VREF, 5 INH, 6 PWDN, 7 X1, 8 X2, 9 VSS (oe), 10 OE, 11 D0, 12 D1, 13 D2, 14 D3, 15 DV, 16 EST, 17 RT/GT, 18 VDD (power)

## RECEIVER-HT9170D(SOIC18)
designator U?, comment 310990004
MPN: HT9170D
footprint SOIC18-1.27-11.5X7.5MM
pins: 1 VP, 2 VN, 3 GS, 4 VREF, 5 INH, 6 PWDN, 7 X1, 8 X2, 9 VSS (oe), 10 OE, 11 D0, 12 D1, 13 D2, 14 D3, 15 DV, 16 EST, 17 RT/GT, 18 VDD (power)

## RECEIVER-MAX232D(SOIC16)
designator U?, comment 310060023
MPN: MAX232D
footprint SOIC16-1.27-10X3.9MM
pins: 1 C1+, 2 V+, 3 C1-, 4 C2+, 5 C2-, 6 V-, 7 DOUT2, 8 RIN2, 9 ROUT2, 10 DIN2, 11 DIN1, 12 ROUT1, 13 RIN1, 14 DOUT1, 15 GND, 16 VCC

## RECEVIER-SI4735-D60-GU(SSOP24)
designator U?, comment 317020004
MPN: SI4735-D60-GU
footprint SSOP24-0.635-8.65X4MM
pins: 1 DOUT, 2 DFS, 3 GPO3/(DCLK), 4 GPO2(!INT), 5 GPO1, 6 NC, 7 NC@1, 8 FMI, 9 RFGND, 10 NC@2, 11 NC@3, 12 AMI, 13 GND, 14 GND@1, 15 !RST, 16 !SEN, 17 SCLK, 18 SDIO, 19 RCLK, 20 VD, 21 VA, 22 DBYP, 23 ROUT(DOUT), 24 LOUT(DFS)

## SDRAM-DS1307ZN(SOIC8)
designator U?, comment 310110010
MPN: DS1307ZN
footprint SOP8-1.27-5X3.6MM
pins: 1 X1, 2 X2, 3 VBAT, 4 GND, 5 SDA, 6 SCL, 7 S/O, 8 VCC